# Altium schematic symbol library WE-PD.SchLib: 360 symbols (part 7 of 7)
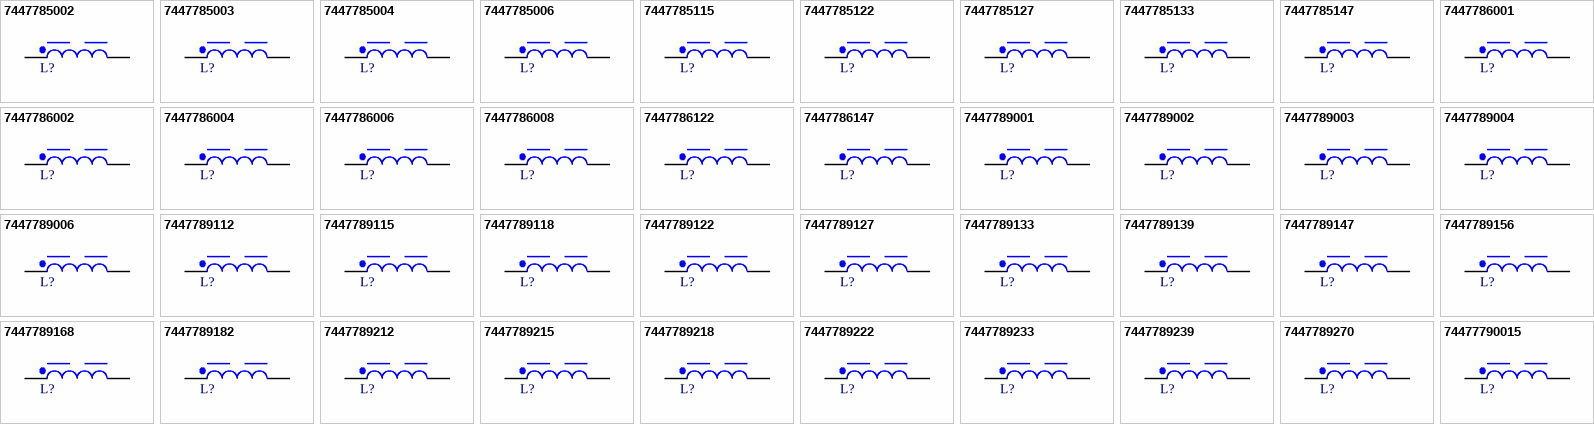
[diagram p14: symbols 7447785002 to 74477790015]

## 7447786006
designator L?, comment 6.8uH, 2.5A  (value not drawn)
WE-PD SMT Power Inductor, size 6050R, 6.8uH, 2.5A, 75mOhm; Manufacturer Part Number: 7447786006; Manufacturer: Wurth Elektronik; DC Resistance: 62mOhm; Saturation Current: 2.3A; Self Resonant Frequency: 43MHz; Type: Robust; Category: Power Inductors; Match Code: WE-PD; ComponentLink1Description: Website Link; ComponentLink1URL: https://www.we-online.com/redexpert/article/7447786006?ad; ComponentLink2Description: Datasheet Link; ComponentLink2URL: https://www.we-online.com/redexpert/spec/7447786006?ad; Mount: Surface Mount; Operating Temperature Max: 125°C; Operating Temperature Min: -40°C; Packaging: Tape and Reel; Case/Size Code: 6050R; Length: 5.9mm; Width: 6.2mm; Height: 5.1mm; DC Resistance Max: 75mOhm; Inductance: 6.8uH; Rated Current: 2.5A
footprint WE-PD_6050R
simulation model 6050_7447786006_6.8u
pins: 1, 2

## 7447786008
designator L?, comment 8.2uH, 2.3A  (value not drawn)
WE-PD SMT Power Inductor, size 6050R, 8.2uH, 2.3A, 80mOhm; Manufacturer Part Number: 7447786008; Manufacturer: Wurth Elektronik; DC Resistance: 66mOhm; Saturation Current: 2.1A; Self Resonant Frequency: 40MHz; Type: Robust; Category: Power Inductors; Match Code: WE-PD; ComponentLink1Description: Website Link; ComponentLink1URL: https://www.we-online.com/redexpert/article/7447786008?ad; ComponentLink2Description: Datasheet Link; ComponentLink2URL: https://www.we-online.com/redexpert/spec/7447786008?ad; Mount: Surface Mount; Operating Temperature Max: 125°C; Operating Temperature Min: -40°C; Packaging: Tape and Reel; Case/Size Code: 6050R; Length: 5.9mm; Width: 6.2mm; Height: 5.1mm; DC Resistance Max: 80mOhm; Inductance: 8.2uH; Rated Current: 2.3A
footprint WE-PD_6050R
simulation model 6050_7447786008_8.2u
pins: 1, 2

## 7447786122
designator L?, comment 22uH, 2A  (value not drawn)
WE-PD SMT Power Inductor, size 6050R, 22uH, 2A, 115mOhm; Manufacturer Part Number: 7447786122; Manufacturer: Wurth Elektronik; DC Resistance: 98mOhm; Saturation Current: 1.3A; Self Resonant Frequency: 15MHz; Type: Robust; Category: Power Inductors; Match Code: WE-PD; ComponentLink1Description: Website Link; ComponentLink1URL: https://www.we-online.com/redexpert/article/7447786122?ad; ComponentLink2Description: Datasheet Link; ComponentLink2URL: https://www.we-online.com/redexpert/spec/7447786122?ad; Mount: Surface Mount; Operating Temperature Max: 125°C; Operating Temperature Min: -40°C; Packaging: Tape and Reel; Case/Size Code: 6050R; Length: 5.9mm; Width: 6.2mm; Height: 5.1mm; DC Resistance Max: 115mOhm; Inductance: 22uH; Rated Current: 2A
footprint WE-PD_6050R
simulation model 6050_7447786122_22u
pins: 1, 2

## 7447786147
designator L?, comment 47uH, 1.4A  (value not drawn)
WE-PD SMT Power Inductor, size 6050R, 47uH, 1.4A, 295mOhm; Manufacturer Part Number: 7447786147; Manufacturer: Wurth Elektronik; DC Resistance: 260mOhm; Saturation Current: 0.8A; Self Resonant Frequency: 10MHz; Type: Robust; Category: Power Inductors; Match Code: WE-PD; ComponentLink1Description: Website Link; ComponentLink1URL: https://www.we-online.com/redexpert/article/7447786147?ad; ComponentLink2Description: Datasheet Link; ComponentLink2URL: https://www.we-online.com/redexpert/spec/7447786147?ad; Mount: Surface Mount; Operating Temperature Max: 125°C; Operating Temperature Min: -40°C; Packaging: Tape and Reel; Case/Size Code: 6050R; Length: 5.9mm; Width: 6.2mm; Height: 5.1mm; DC Resistance Max: 295mOhm; Inductance: 47uH; Rated Current: 1.4A
footprint WE-PD_6050R
simulation model 6050_7447786147_47u
pins: 1, 2

## 7447789001
designator L?, comment 1uH, 5.37A  (value not drawn)
WE-PD SMT Power Inductor, size 7332R, 1uH, 5.37A, 12mOhm; Manufacturer Part Number: 7447789001; Manufacturer: Wurth Elektronik; DC Resistance: 10mOhm; Saturation Current: 6.4A; Self Resonant Frequency: 115MHz; Type: Robust; Category: Power Inductors; Match Code: WE-PD; ComponentLink1Description: Website Link; ComponentLink1URL: https://www.we-online.com/redexpert/article/7447789001?ad; ComponentLink2Description: Datasheet Link; ComponentLink2URL: https://www.we-online.com/redexpert/spec/7447789001?ad; Mount: Surface Mount; Operating Temperature Max: 125°C; Operating Temperature Min: -40°C; Packaging: Tape and Reel; Case/Size Code: 7332R; Length: 7.3mm; Width: 7.3mm; Height: 3.2mm; DC Resistance Max: 12mOhm; Inductance: 1uH; Rated Current: 5.37A
footprint WE-PD_7332R
simulation model 7332_7447789001_1u
pins: 1, 2

## 7447789002
designator L?, comment 2.2uH, 4.02A  (value not drawn)
WE-PD SMT Power Inductor, size 7332R, 2.2uH, 4.02A, 25mOhm; Manufacturer Part Number: 7447789002; Manufacturer: Wurth Elektronik; DC Resistance: 20mOhm; Saturation Current: 4.8A; Self Resonant Frequency: 67MHz; Type: Robust; Category: Power Inductors; Match Code: WE-PD; ComponentLink1Description: Website Link; ComponentLink1URL: https://www.we-online.com/redexpert/article/7447789002?ad; ComponentLink2Description: Datasheet Link; ComponentLink2URL: https://www.we-online.com/redexpert/spec/7447789002?ad; Mount: Surface Mount; Operating Temperature Max: 125°C; Operating Temperature Min: -40°C; Packaging: Tape and Reel; Case/Size Code: 7332R; Length: 7.3mm; Width: 7.3mm; Height: 3.2mm; DC Resistance Max: 25mOhm; Inductance: 2.2uH; Rated Current: 4.02A
footprint WE-PD_7332R
simulation model 7332_7447789002_2.2u
pins: 1, 2

## 7447789003
designator L?, comment 3.3uH, 3.42A  (value not drawn)
WE-PD SMT Power Inductor, size 7332R, 3.3uH, 3.42A, 30mOhm; Manufacturer Part Number: 7447789003; Manufacturer: Wurth Elektronik; DC Resistance: 24mOhm; Saturation Current: 4.2A; Self Resonant Frequency: 61MHz; Type: Robust; Category: Power Inductors; Match Code: WE-PD; ComponentLink1Description: Website Link; ComponentLink1URL: https://www.we-online.com/redexpert/article/7447789003?ad; ComponentLink2Description: Datasheet Link; ComponentLink2URL: https://www.we-online.com/redexpert/spec/7447789003?ad; Mount: Surface Mount; Operating Temperature Max: 125°C; Operating Temperature Min: -40°C; Packaging: Tape and Reel; Case/Size Code: 7332R; Length: 7.3mm; Width: 7.3mm; Height: 3.2mm; DC Resistance Max: 30mOhm; Inductance: 3.3uH; Rated Current: 3.42A
footprint WE-PD_7332R
simulation model 7332_7447789003_3.3u
pins: 1, 2

## 7447789004
designator L?, comment 4.7uH, 2.9A  (value not drawn)
WE-PD SMT Power Inductor, size 7332R, 4.7uH, 2.9A, 39mOhm; Manufacturer Part Number: 7447789004; Manufacturer: Wurth Elektronik; DC Resistance: 33mOhm; Saturation Current: 3.9A; Self Resonant Frequency: 45MHz; Type: Robust; Category: Power Inductors; Match Code: WE-PD; ComponentLink1Description: Website Link; ComponentLink1URL: https://www.we-online.com/redexpert/article/7447789004?ad; ComponentLink2Description: Datasheet Link; ComponentLink2URL: https://www.we-online.com/redexpert/spec/7447789004?ad; Mount: Surface Mount; Operating Temperature Max: 125°C; Operating Temperature Min: -40°C; Packaging: Tape and Reel; Case/Size Code: 7332R; Length: 7.3mm; Width: 7.3mm; Height: 3.2mm; DC Resistance Max: 39mOhm; Inductance: 4.7uH; Rated Current: 2.9A
footprint WE-PD_7332R
simulation model 7332_7447789004_4.7u
pins: 1, 2

## 7447789006
designator L?, comment 6.8uH, 2.5A  (value not drawn)
WE-PD SMT Power Inductor, size 7332R, 6.8uH, 2.5A, 50mOhm; Manufacturer Part Number: 7447789006; Manufacturer: Wurth Elektronik; DC Resistance: 42mOhm; Saturation Current: 2.75A; Self Resonant Frequency: 38MHz; Type: Robust; Category: Power Inductors; Match Code: WE-PD; ComponentLink1Description: Website Link; ComponentLink1URL: https://www.we-online.com/redexpert/article/7447789006?ad; ComponentLink2Description: Datasheet Link; ComponentLink2URL: https://www.we-online.com/redexpert/spec/7447789006?ad; Mount: Surface Mount; Operating Temperature Max: 125°C; Operating Temperature Min: -40°C; Packaging: Tape and Reel; Case/Size Code: 7332R; Length: 7.3mm; Width: 7.3mm; Height: 3.2mm; DC Resistance Max: 50mOhm; Inductance: 6.8uH; Rated Current: 2.5A
footprint WE-PD_7332R
simulation model 7332_7447789006_6.8u
pins: 1, 2

## 7447789112
designator L?, comment 12uH, 1.73A  (value not drawn)
WE-PD SMT Power Inductor, size 7332R, 12uH, 1.73A, 98mOhm; Manufacturer Part Number: 7447789112; Manufacturer: Wurth Elektronik; DC Resistance: 76mOhm; Saturation Current: 1.9A; Self Resonant Frequency: 27MHz; Type: Robust; Category: Power Inductors; Match Code: WE-PD; ComponentLink1Description: Website Link; ComponentLink1URL: https://www.we-online.com/redexpert/article/7447789112?ad; ComponentLink2Description: Datasheet Link; ComponentLink2URL: https://www.we-online.com/redexpert/spec/7447789112?ad; Mount: Surface Mount; Operating Temperature Max: 125°C; Operating Temperature Min: -40°C; Packaging: Tape and Reel; Case/Size Code: 7332R; Length: 7.3mm; Width: 7.3mm; Height: 3.2mm; DC Resistance Max: 98mOhm; Inductance: 12uH; Rated Current: 1.73A
footprint WE-PD_7332R
simulation model 7332_7447789112_12u
pins: 1, 2

## 7447789115
designator L?, comment 15uH, 1.51A  (value not drawn)
WE-PD SMT Power Inductor, size 7332R, 15uH, 1.51A, 130mOhm; Manufacturer Part Number: 7447789115; Manufacturer: Wurth Elektronik; DC Resistance: 100mOhm; Saturation Current: 1.75A; Self Resonant Frequency: 26MHz; Type: Robust; Category: Power Inductors; Match Code: WE-PD; ComponentLink1Description: Website Link; ComponentLink1URL: https://www.we-online.com/redexpert/article/7447789115?ad; ComponentLink2Description: Datasheet Link; ComponentLink2URL: https://www.we-online.com/redexpert/spec/7447789115?ad; Mount: Surface Mount; Operating Temperature Max: 125°C; Operating Temperature Min: -40°C; Packaging: Tape and Reel; Case/Size Code: 7332R; Length: 7.3mm; Width: 7.3mm; Height: 3.2mm; DC Resistance Max: 130mOhm; Inductance: 15uH; Rated Current: 1.51A
footprint WE-PD_7332R
simulation model 7332_7447789115_15u
pins: 1, 2

## 7447789118
designator L?, comment 18uH, 1.41A  (value not drawn)
WE-PD SMT Power Inductor, size 7332R, 18uH, 1.41A, 140mOhm; Manufacturer Part Number: 7447789118; Manufacturer: Wurth Elektronik; DC Resistance: 114mOhm; Saturation Current: 1.7A; Self Resonant Frequency: 24MHz; Type: Robust; Category: Power Inductors; Match Code: WE-PD; ComponentLink1Description: Website Link; ComponentLink1URL: https://www.we-online.com/redexpert/article/7447789118?ad; ComponentLink2Description: Datasheet Link; ComponentLink2URL: https://www.we-online.com/redexpert/spec/7447789118?ad; Mount: Surface Mount; Operating Temperature Max: 125°C; Operating Temperature Min: -40°C; Packaging: Tape and Reel; Case/Size Code: 7332R; Length: 7.3mm; Width: 7.3mm; Height: 3.2mm; DC Resistance Max: 140mOhm; Inductance: 18uH; Rated Current: 1.41A
footprint WE-PD_7332R
simulation model 7332_7447789118_18u
pins: 1, 2

## 7447789122
designator L?, comment 22uH, 1.38A  (value not drawn)
WE-PD SMT Power Inductor, size 7332R, 22uH, 1.38A, 190mOhm; Manufacturer Part Number: 7447789122; Manufacturer: Wurth Elektronik; DC Resistance: 119mOhm; Saturation Current: 1.4A; Self Resonant Frequency: 20MHz; Type: Robust; Category: Power Inductors; Match Code: WE-PD; ComponentLink1Description: Website Link; ComponentLink1URL: https://www.we-online.com/redexpert/article/7447789122?ad; ComponentLink2Description: Datasheet Link; ComponentLink2URL: https://www.we-online.com/redexpert/spec/7447789122?ad; Mount: Surface Mount; Operating Temperature Max: 125°C; Operating Temperature Min: -40°C; Packaging: Tape and Reel; Case/Size Code: 7332R; Length: 7.3mm; Width: 7.3mm; Height: 3.2mm; DC Resistance Max: 190mOhm; Inductance: 22uH; Rated Current: 1.38A
footprint WE-PD_7332R
simulation model 7332_7447789122_22u
pins: 1, 2

## 7447789127
designator L?, comment 27uH, 1.27A  (value not drawn)
WE-PD SMT Power Inductor, size 7332R, 27uH, 1.27A, 210mOhm; Manufacturer Part Number: 7447789127; Manufacturer: Wurth Elektronik; DC Resistance: 130mOhm; Saturation Current: 1.35A; Self Resonant Frequency: 18MHz; Type: Robust; Category: Power Inductors; Match Code: WE-PD; ComponentLink1Description: Website Link; ComponentLink1URL: https://www.we-online.com/redexpert/article/7447789127?ad; ComponentLink2Description: Datasheet Link; ComponentLink2URL: https://www.we-online.com/redexpert/spec/7447789127?ad; Mount: Surface Mount; Operating Temperature Max: 125°C; Operating Temperature Min: -40°C; Packaging: Tape and Reel; Case/Size Code: 7332R; Length: 7.3mm; Width: 7.3mm; Height: 3.2mm; DC Resistance Max: 210mOhm; Inductance: 27uH; Rated Current: 1.27A
footprint WE-PD_7332R
simulation model 7332_7447789127_27u
pins: 1, 2

## 7447789133
designator L?, comment 33uH, 1.22A  (value not drawn)
WE-PD SMT Power Inductor, size 7332R, 33uH, 1.22A, 240mOhm; Manufacturer Part Number: 7447789133; Manufacturer: Wurth Elektronik; DC Resistance: 153mOhm; Saturation Current: 1.15A; Self Resonant Frequency: 16MHz; Type: Robust; Category: Power Inductors; Match Code: WE-PD; ComponentLink1Description: Website Link; ComponentLink1URL: https://www.we-online.com/redexpert/article/7447789133?ad; ComponentLink2Description: Datasheet Link; ComponentLink2URL: https://www.we-online.com/redexpert/spec/7447789133?ad; Mount: Surface Mount; Operating Temperature Max: 125°C; Operating Temperature Min: -40°C; Packaging: Tape and Reel; Case/Size Code: 7332R; Length: 7.3mm; Width: 7.3mm; Height: 3.2mm; DC Resistance Max: 240mOhm; Inductance: 33uH; Rated Current: 1.22A
footprint WE-PD_7332R
simulation model 7332_7447789133_33u
pins: 1, 2

## 7447789139
designator L?, comment 39uH, 1.03A  (value not drawn)
WE-PD SMT Power Inductor, size 7332R, 39uH, 1.03A, 320mOhm; Manufacturer Part Number: 7447789139; Manufacturer: Wurth Elektronik; DC Resistance: 209mOhm; Saturation Current: 1.1A; Self Resonant Frequency: 14MHz; Type: Robust; Category: Power Inductors; Match Code: WE-PD; ComponentLink1Description: Website Link; ComponentLink1URL: https://www.we-online.com/redexpert/article/7447789139?ad; ComponentLink2Description: Datasheet Link; ComponentLink2URL: https://www.we-online.com/redexpert/spec/7447789139?ad; Mount: Surface Mount; Operating Temperature Max: 125°C; Operating Temperature Min: -40°C; Packaging: Tape and Reel; Case/Size Code: 7332R; Length: 7.3mm; Width: 7.3mm; Height: 3.2mm; DC Resistance Max: 320mOhm; Inductance: 39uH; Rated Current: 1.03A
footprint WE-PD_7332R
simulation model 7332_7447789139_39u
pins: 1, 2

## 7447789147
designator L?, comment 47uH, 0.85A  (value not drawn)
WE-PD SMT Power Inductor, size 7332R, 47uH, 0.85A, 360mOhm; Manufacturer Part Number: 7447789147; Manufacturer: Wurth Elektronik; DC Resistance: 315mOhm; Saturation Current: 1A; Self Resonant Frequency: 13.5MHz; Type: Robust; Category: Power Inductors; Match Code: WE-PD; ComponentLink1Description: Website Link; ComponentLink1URL: https://www.we-online.com/redexpert/article/7447789147?ad; ComponentLink2Description: Datasheet Link; ComponentLink2URL: https://www.we-online.com/redexpert/spec/7447789147?ad; Mount: Surface Mount; Operating Temperature Max: 125°C; Operating Temperature Min: -40°C; Packaging: Tape and Reel; Case/Size Code: 7332R; Length: 7.3mm; Width: 7.3mm; Height: 3.2mm; DC Resistance Max: 360mOhm; Inductance: 47uH; Rated Current: 0.85A
footprint WE-PD_7332R
simulation model 7332_7447789147_47u
pins: 1, 2

## 7447789156
designator L?, comment 56uH, 0.84A  (value not drawn)
WE-PD SMT Power Inductor, size 7332R, 56uH, 0.84A, 470mOhm; Manufacturer Part Number: 7447789156; Manufacturer: Wurth Elektronik; DC Resistance: 335mOhm; Saturation Current: 0.9A; Self Resonant Frequency: 12.5MHz; Type: Robust; Category: Power Inductors; Match Code: WE-PD; ComponentLink1Description: Website Link; ComponentLink1URL: https://www.we-online.com/redexpert/article/7447789156?ad; ComponentLink2Description: Datasheet Link; ComponentLink2URL: https://www.we-online.com/redexpert/spec/7447789156?ad; Mount: Surface Mount; Operating Temperature Max: 125°C; Operating Temperature Min: -40°C; Packaging: Tape and Reel; Case/Size Code: 7332R; Length: 7.3mm; Width: 7.3mm; Height: 3.2mm; DC Resistance Max: 470mOhm; Inductance: 56uH; Rated Current: 0.84A
footprint WE-PD_7332R
simulation model 7332_7447789156_56u
pins: 1, 2

## 7447789168
designator L?, comment 68uH, 0.74A  (value not drawn)
WE-PD SMT Power Inductor, size 7332R, 68uH, 0.74A, 520mOhm; Manufacturer Part Number: 7447789168; Manufacturer: Wurth Elektronik; DC Resistance: 420mOhm; Saturation Current: 0.84A; Self Resonant Frequency: 11.5MHz; Type: Robust; Category: Power Inductors; Match Code: WE-PD; ComponentLink1Description: Website Link; ComponentLink1URL: https://www.we-online.com/redexpert/article/7447789168?ad; ComponentLink2Description: Datasheet Link; ComponentLink2URL: https://www.we-online.com/redexpert/spec/7447789168?ad; Mount: Surface Mount; Operating Temperature Max: 125°C; Operating Temperature Min: -40°C; Packaging: Tape and Reel; Case/Size Code: 7332R; Length: 7.3mm; Width: 7.3mm; Height: 3.2mm; DC Resistance Max: 520mOhm; Inductance: 68uH; Rated Current: 0.74A
footprint WE-PD_7332R
simulation model 7332_7447789168_68u
pins: 1, 2

## 7447789182
designator L?, comment 82uH, 0.69A  (value not drawn)
WE-PD SMT Power Inductor, size 7332R, 82uH, 0.69A, 690mOhm; Manufacturer Part Number: 7447789182; Manufacturer: Wurth Elektronik; DC Resistance: 470mOhm; Saturation Current: 0.78A; Self Resonant Frequency: 9.8MHz; Type: Robust; Category: Power Inductors; Match Code: WE-PD; ComponentLink1Description: Website Link; ComponentLink1URL: https://www.we-online.com/redexpert/article/7447789182?ad; ComponentLink2Description: Datasheet Link; ComponentLink2URL: https://www.we-online.com/redexpert/spec/7447789182?ad; Mount: Surface Mount; Operating Temperature Max: 125°C; Operating Temperature Min: -40°C; Packaging: Tape and Reel; Case/Size Code: 7332R; Length: 7.3mm; Width: 7.3mm; Height: 3.2mm; DC Resistance Max: 690mOhm; Inductance: 82uH; Rated Current: 0.69A
footprint WE-PD_7332R
simulation model 7332_7447789182_82u
pins: 1, 2

## 7447789212
designator L?, comment 120uH, 0.6A  (value not drawn)
WE-PD SMT Power Inductor, size 7332R, 120uH, 0.6A, 890mOhm; Manufacturer Part Number: 7447789212; Manufacturer: Wurth Elektronik; DC Resistance: 563mOhm; Saturation Current: 0.68A; Self Resonant Frequency: 8.5MHz; Type: Robust; Category: Power Inductors; Match Code: WE-PD; ComponentLink1Description: Website Link; ComponentLink1URL: https://www.we-online.com/redexpert/article/7447789212?ad; ComponentLink2Description: Datasheet Link; ComponentLink2URL: https://www.we-online.com/redexpert/spec/7447789212?ad; Mount: Surface Mount; Operating Temperature Max: 125°C; Operating Temperature Min: -40°C; Packaging: Tape and Reel; Case/Size Code: 7332R; Length: 7.3mm; Width: 7.3mm; Height: 3.2mm; DC Resistance Max: 890mOhm; Inductance: 120uH; Rated Current: 0.6A
footprint WE-PD_7332R
simulation model 7332_7447789212_120u
pins: 1, 2

## 7447789215
designator L?, comment 150uH, 0.56A  (value not drawn)
WE-PD SMT Power Inductor, size 7332R, 150uH, 0.56A, 1270mOhm; Manufacturer Part Number: 7447789215; Manufacturer: Wurth Elektronik; DC Resistance: 720mOhm; Saturation Current: 0.53A; Self Resonant Frequency: 7.2MHz; Type: Robust; Category: Power Inductors; Match Code: WE-PD; ComponentLink1Description: Website Link; ComponentLink1URL: https://www.we-online.com/redexpert/article/7447789215?ad; ComponentLink2Description: Datasheet Link; ComponentLink2URL: https://www.we-online.com/redexpert/spec/7447789215?ad; Mount: Surface Mount; Operating Temperature Max: 125°C; Operating Temperature Min: -40°C; Packaging: Tape and Reel; Case/Size Code: 7332R; Length: 7.3mm; Width: 7.3mm; Height: 3.2mm; DC Resistance Max: 1270mOhm; Inductance: 150uH; Rated Current: 0.56A
footprint WE-PD_7332R
simulation model 7332_7447789215_150u
pins: 1, 2

## 7447789218
designator L?, comment 180uH, 0.49A  (value not drawn)
WE-PD SMT Power Inductor, size 7332R, 180uH, 0.49A, 1450mOhm; Manufacturer Part Number: 7447789218; Manufacturer: Wurth Elektronik; DC Resistance: 960mOhm; Saturation Current: 0.5A; Self Resonant Frequency: 7MHz; Type: Robust; Category: Power Inductors; Match Code: WE-PD; ComponentLink1Description: Website Link; ComponentLink1URL: https://www.we-online.com/redexpert/article/7447789218?ad; ComponentLink2Description: Datasheet Link; ComponentLink2URL: https://www.we-online.com/redexpert/spec/7447789218?ad; Mount: Surface Mount; Operating Temperature Max: 125°C; Operating Temperature Min: -40°C; Packaging: Tape and Reel; Case/Size Code: 7332R; Length: 7.3mm; Width: 7.3mm; Height: 3.2mm; DC Resistance Max: 1450mOhm; Inductance: 180uH; Rated Current: 0.49A
footprint WE-PD_7332R
simulation model 7332_7447789218_180u
pins: 1, 2

## 7447789222
designator L?, comment 220uH, 0.43A  (value not drawn)
WE-PD SMT Power Inductor, size 7332R, 220uH, 0.43A, 1650mOhm; Manufacturer Part Number: 7447789222; Manufacturer: Wurth Elektronik; DC Resistance: 1350mOhm; Saturation Current: 0.42A; Self Resonant Frequency: 6MHz; Type: Robust; Category: Power Inductors; Match Code: WE-PD; ComponentLink1Description: Website Link; ComponentLink1URL: https://www.we-online.com/redexpert/article/7447789222?ad; ComponentLink2Description: Datasheet Link; ComponentLink2URL: https://www.we-online.com/redexpert/spec/7447789222?ad; Mount: Surface Mount; Operating Temperature Max: 125°C; Operating Temperature Min: -40°C; Packaging: Tape and Reel; Case/Size Code: 7332R; Length: 7.3mm; Width: 7.3mm; Height: 3.2mm; DC Resistance Max: 1650mOhm; Inductance: 220uH; Rated Current: 0.43A
footprint WE-PD_7332R
simulation model 7332_7447789222_220u
pins: 1, 2

## 7447789233
designator L?, comment 330uH, 0.32A  (value not drawn)
WE-PD SMT Power Inductor, size 7332R, 330uH, 0.32A, 2620mOhm; Manufacturer Part Number: 7447789233; Manufacturer: Wurth Elektronik; DC Resistance: 2280mOhm; Saturation Current: 0.35A; Self Resonant Frequency: 4.8MHz; Type: Robust; Category: Power Inductors; Match Code: WE-PD; ComponentLink1Description: Website Link; ComponentLink1URL: https://www.we-online.com/redexpert/article/7447789233?ad; ComponentLink2Description: Datasheet Link; ComponentLink2URL: https://www.we-online.com/redexpert/spec/7447789233?ad; Mount: Surface Mount; Operating Temperature Max: 125°C; Operating Temperature Min: -40°C; Packaging: Tape and Reel; Case/Size Code: 7332R; Length: 7.3mm; Width: 7.3mm; Height: 3.2mm; DC Resistance Max: 2620mOhm; Inductance: 330uH; Rated Current: 0.32A
footprint WE-PD_7332R
simulation model 7332_7447789233_330u
pins: 1, 2

## 7447789239
designator L?, comment 390uH, 0.3A  (value not drawn)
WE-PD SMT Power Inductor, size 7332R, 390uH, 0.3A, 2940mOhm; Manufacturer Part Number: 7447789239; Manufacturer: Wurth Elektronik; DC Resistance: 2490mOhm; Saturation Current: 0.34A; Self Resonant Frequency: 4.4MHz; Type: Robust; Category: Power Inductors; Match Code: WE-PD; ComponentLink1Description: Website Link; ComponentLink1URL: https://www.we-online.com/redexpert/article/7447789239?ad; ComponentLink2Description: Datasheet Link; ComponentLink2URL: https://www.we-online.com/redexpert/spec/7447789239?ad; Mount: Surface Mount; Operating Temperature Max: 125°C; Operating Temperature Min: -40°C; Packaging: Tape and Reel; Case/Size Code: 7332R; Length: 7.3mm; Width: 7.3mm; Height: 3.2mm; DC Resistance Max: 2940mOhm; Inductance: 390uH; Rated Current: 0.3A
footprint WE-PD_7332R
simulation model 7332_7447789239_390u
pins: 1, 2

## 7447789270
designator L?, comment 270uH, 0.4A  (value not drawn)
WE-PD SMT Power Inductor, size 7332R, 270uH, 0.4A, 2310mOhm; Manufacturer Part Number: 7447789270; Manufacturer: Wurth Elektronik; DC Resistance: 1470mOhm; Saturation Current: 0.39A; Self Resonant Frequency: 5.2MHz; Type: Robust; Category: Power Inductors; Match Code: WE-PD; ComponentLink1Description: Website Link; ComponentLink1URL: https://www.we-online.com/redexpert/article/7447789270?ad; ComponentLink2Description: Datasheet Link; ComponentLink2URL: https://www.we-online.com/redexpert/spec/7447789270?ad; Mount: Surface Mount; Operating Temperature Max: 125°C; Operating Temperature Min: -40°C; Packaging: Tape and Reel; Case/Size Code: 7332R; Length: 7.3mm; Width: 7.3mm; Height: 3.2mm; DC Resistance Max: 2310mOhm; Inductance: 270uH; Rated Current: 0.4A
footprint WE-PD_7332R
simulation model 7332_7447789270_270u
pins: 1, 2

## 74477790015
designator L?, comment 1.5uH, 4.3A  (value not drawn)
WE-PD SMT Power Inductor, size 7345R, 1.5uH, 4.3A, 18mOhm; Manufacturer Part Number: 74477790015; Manufacturer: Wurth Elektronik; DC Resistance: 15mOhm; Saturation Current: 7.3A; Self Resonant Frequency: 75MHz; Type: Robust; Category: Power Inductors; Match Code: WE-PD; ComponentLink1Description: Website Link; ComponentLink1URL: https://www.we-online.com/redexpert/article/74477790015?ad; ComponentLink2Description: Datasheet Link; ComponentLink2URL: https://www.we-online.com/redexpert/spec/74477790015?ad; Mount: Surface Mount; Operating Temperature Max: 125°C; Operating Temperature Min: -40°C; Packaging: Tape and Reel; Case/Size Code: 7345R; Length: 7.3mm; Width: 7.3mm; Height: 4.5mm; DC Resistance Max: 18mOhm; Inductance: 1.5uH; Rated Current: 4.3A
footprint WE-PD_7345R
simulation model 7345_74477790015_1.5u
pins: 1, 2